# Altium footprint library ST-214N.PcbLib: 1 footprints
Each footprint in its own frame and in the unit in brackets; x right, y up, seen from the top. Pads: shape width x height; smd on the part's side, far side on the other; paste and mask are expansions set on the pad; w line width, h text height; cw(c..) or ccw(c..) is an arc to the next point about the centre after c.
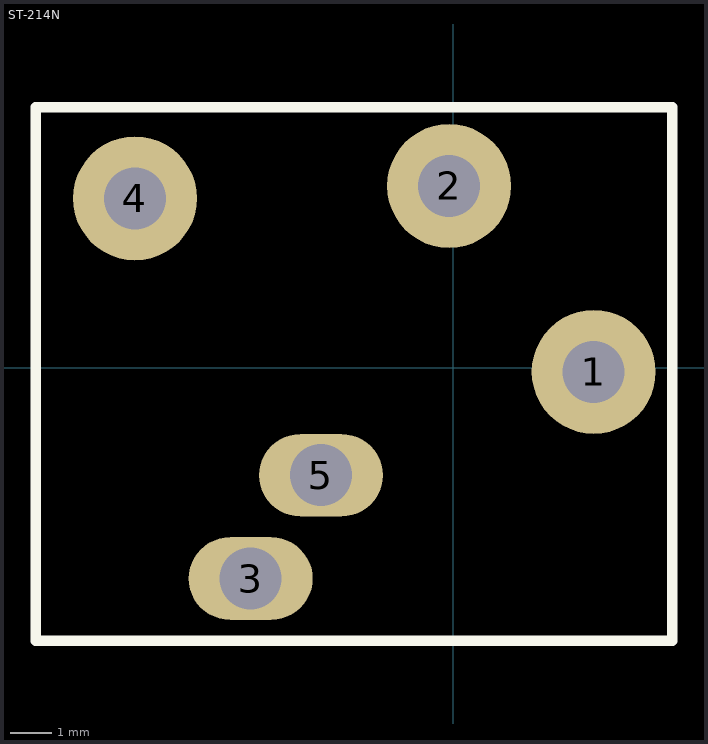
[diagram p0: the footprint, top view; thin cyan lines are the x and y axes]

## ST-214N [mm] "Jack 3.5 mm"
pads (5):
  round 3 hole 1.5: 1(3.4,-0.1) 2(-0.1,4.4) 4(-7.7,4.1)
  oval 3x2 hole 1.5: 3(-4.9,-5.1) 5(-3.2,-2.6)
Top Overlay:
  lines w0.254: -10.1,-6.6 -10,-6.6 5.3,-6.6 5.3,6.3 -10.1,6.3 -10.1,-6.6
3D body "CUI_SJ1-3515N.step": height 6.1, standoff -2.9, extent -8.8,-6.05 8.7,5.45